# EAGLE library part LAMBDA-9S (library LAMBDA-9S)
915MHz LORA RF Fcc Certified Module 16km Source: Datasheet <https://www.rfsolutions.co.uk/downloads/1523890514DS-LAMBDA-1.pdf>
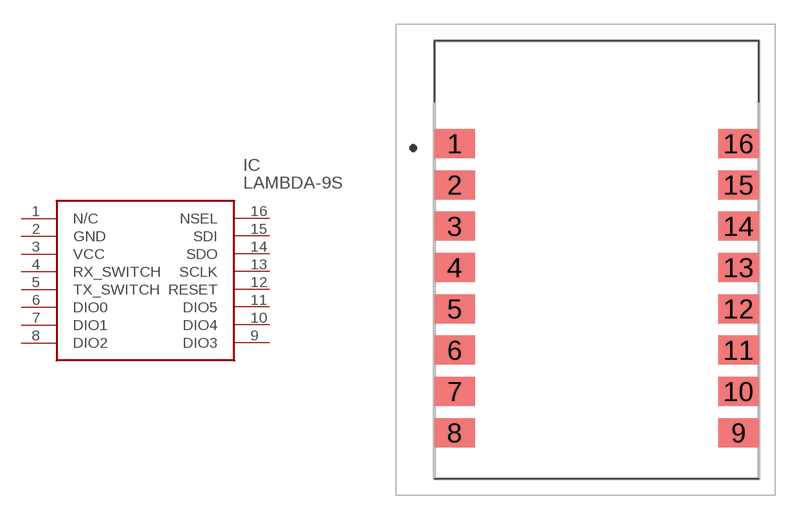
[diagram p0: symbol with the pads of LAMBDA9S; footprint LAMBDA9S]

Designator prefix IC

## LAMBDA-9S (Description: 915MHz LORA RF Fcc Certified Module 16km; Height: 2mm; Manufacturer_Name: RF SOLUTIONS; Manufacturer_Part_Number: LAMBDA-9S; Mouser_Part_Number: 223-LAMBDA-9S; Mouser_Price-Stock: https://www.mouser.co.uk/ProductDetail/RF-Solutions/LAMBDA-9S?qs=17u8i%2FzlE88b0wd4JeoCNg%3D%3D)  [LAMBDA9S]
1  N/C  nc
2  GND
3  VCC
4  RX_SWITCH
5  TX_SWITCH
6  DIO0
7  DIO1
8  DIO2
9  DIO3
10  DIO4
11  DIO5
12  RESET
13  SCLK
14  SDO
15  SDI
16  NSEL

## Footprint LAMBDA9S (pad centres in mm)
LAMBDA-9S-1
smd 2.5 x 1.78: 1 -8.05,7.145; 2 -8.05,4.605; 3 -8.05,2.065; 4 -8.05,-0.475; 5 -8.05,-3.015; 6 -8.05,-5.555; 7 -8.05,-8.095; 8 -8.05,-10.635; 9 9.4,-10.635; 10 9.4,-8.095; 11 9.4,-5.555; 12 9.4,-3.015; 13 9.4,-0.475; 14 9.4,2.065; 15 9.4,4.605; 16 9.4,7.145